# EAGLE library part STM32F303CCT6 (library canusb)
STM32F303xB STM32F303xC Arm®-based Cortex®-M4 32b MCU+FPU, up to 256KB Flash+ 48KB SRAM, 4 ADCs, 2 DAC ch., 7 comp, 4 PGA, timers, 2.0-3.6 V
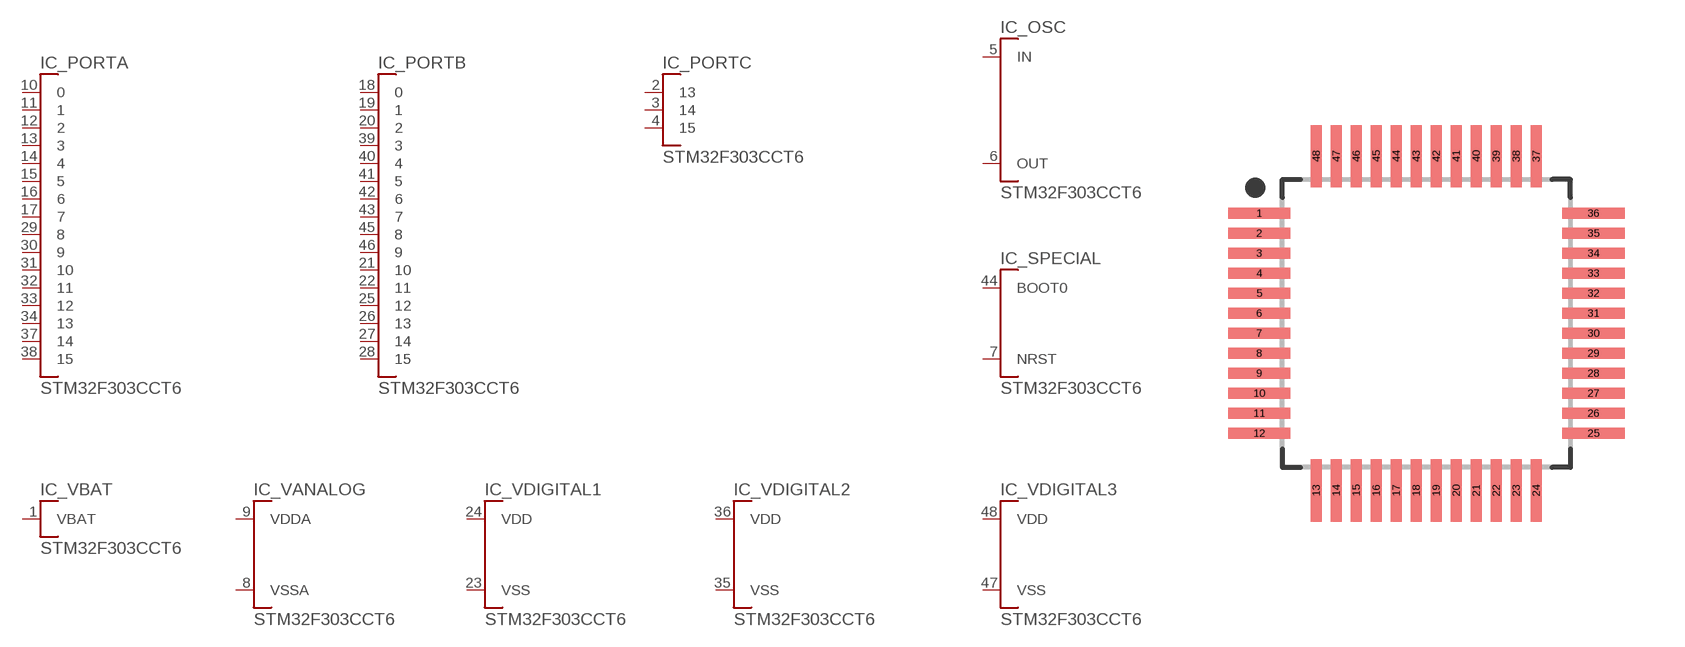
[diagram p0: symbol with the pads of QFP50P900X900X160-48N; footprint QFP50P900X900X160-48N]

Designator prefix IC; gates _VBAT=STM32_V_BAT _PORTA=STM32_PORT _PORTB=STM32_PORT _VANALOG=STM32_V_ANALOG _VDIGITAL1=STM32_V_DIGITAL _VDIGITAL2=STM32_V_DIGITAL _VDIGITAL3=STM32_V_DIGITAL _SPECIAL=STM32_SPECIAL _OSC=STM32_OSC _PORTC=STM32_PORTC

## STM32F303CCT6  [QFP50P900X900X160-48N]
1  _VBAT:VBAT  pwr
2  _PORTC:13
3  _PORTC:14
4  _PORTC:15
5  _OSC:IN  pas
6  _OSC:OUT  pas
7  _SPECIAL:NRST  pas
8  _VANALOG:VSSA  pwr
9  _VANALOG:VDDA  pwr
10  _PORTA:0
11  _PORTA:1
12  _PORTA:2
13  _PORTA:3
14  _PORTA:4
15  _PORTA:5
16  _PORTA:6
17  _PORTA:7
18  _PORTB:0
19  _PORTB:1
20  _PORTB:2
21  _PORTB:10
22  _PORTB:11
23  _VDIGITAL1:VSS  pwr
24  _VDIGITAL1:VDD  pwr
25  _PORTB:12
26  _PORTB:13
27  _PORTB:14
28  _PORTB:15
29  _PORTA:8
30  _PORTA:9
31  _PORTA:10
32  _PORTA:11
33  _PORTA:12
34  _PORTA:13
35  _VDIGITAL2:VSS  pwr
36  _VDIGITAL2:VDD  pwr
37  _PORTA:14
38  _PORTA:15
39  _PORTB:3
40  _PORTB:4
41  _PORTB:5
42  _PORTB:6
43  _PORTB:7
44  _SPECIAL:BOOT0  pas
45  _PORTB:8
46  _PORTB:9
47  _VDIGITAL3:VSS  pwr
48  _VDIGITAL3:VDD  pwr

## Footprint QFP50P900X900X160-48N (pad centres in mm)
48-QFP, 0.50 mm pitch, 9.00 mm span, 7.00 X 7.00 X 1.60 mm body 48-pin QFP package with 0.50 mm pitch, 9.00 mm lead span1 X 9.00 mm lead span2 with body size 7.00 X 7.00 X 1.60 mm
smd 1.559 x 0.28: 1 -4.178,2.75; 2 -4.178,2.25; 3 -4.178,1.75; 4 -4.178,1.25; 5 -4.178,0.75; 6 -4.178,0.25; 7 -4.178,-0.25; 8 -4.178,-0.75; 9 -4.178,-1.25; 10 -4.178,-1.75; 11 -4.178,-2.25; 12 -4.178,-2.75; 25 4.178,-2.75; 26 4.178,-2.25; 27 4.178,-1.75; 28 4.178,-1.25; 29 4.178,-0.75; 30 4.178,-0.25; 31 4.178,0.25; 32 4.178,0.75; 33 4.178,1.25; 34 4.178,1.75; 35 4.178,2.25; 36 4.178,2.75
smd 0.28 x 1.559: 13 -2.75,-4.178; 14 -2.25,-4.178; 15 -1.75,-4.178; 16 -1.25,-4.178; 17 -0.75,-4.178; 18 -0.25,-4.178; 19 0.25,-4.178; 20 0.75,-4.178; 21 1.25,-4.178; 22 1.75,-4.178; 23 2.25,-4.178; 24 2.75,-4.178; 37 2.75,4.178; 38 2.25,4.178; 39 1.75,4.178; 40 1.25,4.178; 41 0.75,4.178; 42 0.25,4.178; 43 -0.25,4.178; 44 -0.75,4.178; 45 -1.25,4.178; 46 -1.75,4.178; 47 -2.25,4.178; 48 -2.75,4.178